# EAGLE library part STK681-360-E (library stk681-360-e)
STK681-300 DRIVER, MOTOR, 42V, 2.9A, DC BRUSH
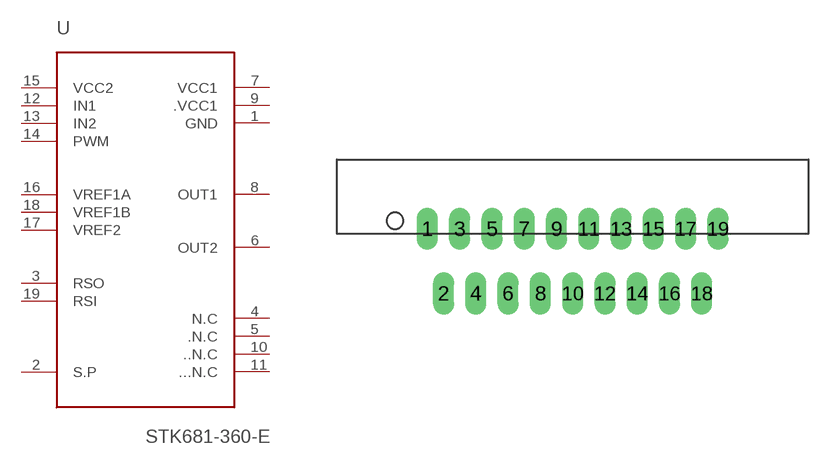
[diagram p0: symbol with the pads of SIP-19; footprint SIP-19]

Designator prefix U

## STK681-360-E (MANUFACTURER: ON SEMICONDUCTOR; MPN: STK681-300-E; PACKAGE: SIP-19)  [SIP-19]
1  GND
2  S.P
3  RSO
4  N.C
5  .N.C
6  OUT2
7  VCC1
8  OUT1
9  .VCC1
10  ..N.C
11  ...N.C
12  IN1
13  IN2
14  PWM
15  VCC2
16  VREF1A
17  VREF2
18  VREF1B
19  RSI

## Footprint SIP-19 (pad centres in mm)
drill 0.8 pad 1.016 long: 1 -9,2; 2 -8,-2; 3 -7,2; 4 -6,-2; 5 -5,2; 6 -4,-2; 7 -3,2; 8 -2,-2; 9 -1,2; 10 0,-2; 11 1,2; 12 2,-2; 13 3,2; 14 4,-2; 15 5,2; 16 6,-2; 17 7,2; 18 8,-2; 19 9,2